# Altium integrated library STTH806D.IntLib: 1 symbol
Pins are listed as number, name and electrical type; pins without a type are passive.

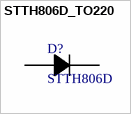
[diagram p0: symbol STTH806D_TO220]

## STTH806D_TO220
designator D?, comment STTH806D
Diode Standard 600V 8A TO220AC; MF: Nexperia USA; Availability: Unavailable; Package: SOT-23-3 Rectron; Price: None; SnapEDA_Link: https://www.snapeda.com/parts/BC817/Nexperia%20USA%20Inc./view-part/4219270/?ref=snap; MP: STTH806D; Value: STTH806D
pins: 1 C, 2 A